# EAGLE library part MAX6675 (library exoteric-analytics-custom)
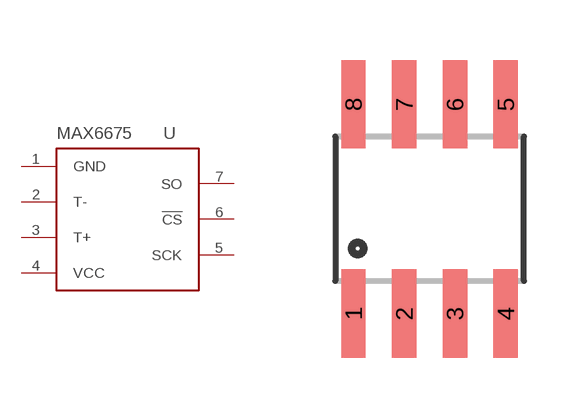
[diagram p2: symbol with the pads of SO08; footprint SO08]

Designator prefix U

## MAX6675  [SO08]
1  GND
2  T-
3  T+
4  VCC
5  SCK
6  !CS
7  SO

## Footprint SO08 (pad centres in mm)
Small Outline Package Fits JEDEC packages (narrow SOIC-8)
smd 0.61 x 2.21: 1 -1.905,-2.616; 2 -0.635,-2.616; 3 0.635,-2.616; 4 1.905,-2.616; 5 1.905,2.616; 6 0.635,2.616; 7 -0.635,2.616; 8 -1.905,2.616